# EAGLE library part HMC717ALP3E (library QFN50P300X300X100-17N)
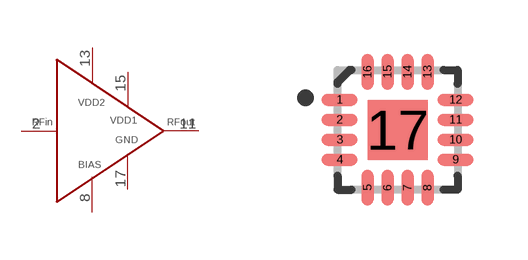
[diagram p0: symbol with the pads of QFN50P300X300X100-17N; footprint QFN50P300X300X100-17N]

Designator prefix U

## HMC717ALP3E  [QFN50P300X300X100-17N]
2  RFIN
8  BIAS
11  RFOUT
13  VDD2
15  VDD1
17  GND

## Footprint QFN50P300X300X100-17N (pad centres in mm)
smd 0.9 x 0.3: 1 -1.45,0.75; 2 -1.45,0.25; 3 -1.45,-0.25; 4 -1.45,-0.75; 9 1.45,-0.75; 10 1.45,-0.25; 11 1.45,0.25; 12 1.45,0.75
smd 0.3 x 0.9: 5 -0.75,-1.45; 6 -0.25,-1.45; 7 0.25,-1.45; 8 0.75,-1.45; 13 0.75,1.45; 14 0.25,1.45; 15 -0.25,1.45; 16 -0.75,1.45
smd 1.5 x 1.5: 17 0,0